# Altium schematic symbol library SCH - DRIVER - LED - TI TPS61041-Q1_DBV_5.SchLib: 1 symbol
Pins are listed as number, name and electrical type; pins without a type are passive.

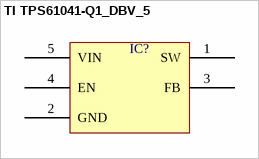
[diagram p0: symbol TI TPS61041-Q1_DBV_5]

## TI TPS61041-Q1_DBV_5
designator IC?  (value not drawn)
pins: 1 SW, 2 GND, 3 FB, 4 EN, 5 VIN